# EAGLE library part 5179031-2 (library Jack-connectors)
8 mm height, 60 pins plug with 0.8 mm pitch
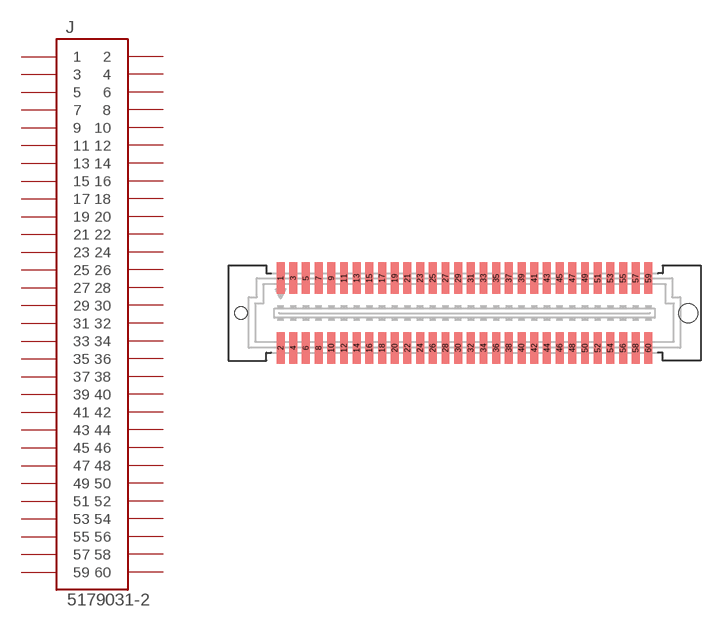
[diagram p15: symbol with the pads of TYCO_FH0860; footprint TYCO_FH0860]

Designator prefix J

## 5179031-2 (DESCRIPTION: Board-to-board connector, 8 mm height, 60 pins plug with 0.8 mm pitch; PACK: TYCO_FH0860)  [TYCO_FH0860]
1  1  pas
2  2  pas
3  3  pas
4  4  pas
5  5  pas
6  6  pas
7  7  pas
8  8  pas
9  9  pas
10  10  pas
11  11  pas
12  12  pas
13  13  pas
14  14  pas
15  15  pas
16  16  pas
17  17  pas
18  18  pas
19  19  pas
20  20  pas
21  21  pas
22  22  pas
23  23  pas
24  24  pas
25  25  pas
26  26  pas
27  27  pas
28  28  pas
29  29  pas
30  30  pas
31  31  pas
32  32  pas
33  33  pas
34  34  pas
35  35  pas
36  36  pas
37  37  pas
38  38  pas
39  39  pas
40  40  pas
41  41  pas
42  42  pas
43  43  pas
44  44  pas
45  45  pas
46  46  pas
47  47  pas
48  48  pas
49  49  pas
50  50  pas
51  51  pas
52  52  pas
53  53  pas
54  54  pas
55  55  pas
56  56  pas
57  57  pas
58  58  pas
59  59  pas
60  60  pas

## Footprint TYCO_FH0860 (pad centres in mm)
Free Height Vertical Plug, 60 Pins, 0.8 mm Pitch, Plug
smd 0.5 x 2: 1 -11.6,2.2; 2 -11.6,-2.2; 3 -10.8,2.2; 4 -10.8,-2.2; 5 -10,2.2; 6 -10,-2.2; 7 -9.2,2.2; 8 -9.2,-2.2; 9 -8.4,2.2; 10 -8.4,-2.2; 11 -7.6,2.2; 12 -7.6,-2.2; 13 -6.8,2.2; 14 -6.8,-2.2; 15 -6,2.2; 16 -6,-2.2; 17 -5.2,2.2; 18 -5.2,-2.2; 19 -4.4,2.2; 20 -4.4,-2.2; 21 -3.6,2.2; 22 -3.6,-2.2; 23 -2.8,2.2; 24 -2.8,-2.2; 25 -2,2.2; 26 -2,-2.2; 27 -1.2,2.2; 28 -1.2,-2.2; 29 -0.4,2.2; 30 -0.4,-2.2; 31 0.4,2.2; 32 0.4,-2.2; 33 1.2,2.2; 34 1.2,-2.2; 35 2,2.2; 36 2,-2.2; 37 2.8,2.2; 38 2.8,-2.2; 39 3.6,2.2; 40 3.6,-2.2; 41 4.4,2.2; 42 4.4,-2.2; 43 5.2,2.2; 44 5.2,-2.2; 45 6,2.2; 46 6,-2.2; 47 6.8,2.2; 48 6.8,-2.2; 49 7.6,2.2; 50 7.6,-2.2; 51 8.4,2.2; 52 8.4,-2.2; 53 9.2,2.2; 54 9.2,-2.2; 55 10,2.2; 56 10,-2.2; 57 10.8,2.2; 58 10.8,-2.2; 59 11.6,2.2; 60 11.6,-2.2
hole 0.8 at -14.1,0
hole 1.2 at 14.1,0